# Altium schematic symbol library Relay-2.SchLib: 1 symbol
Pins are listed as number, name and electrical type; pins without a type are passive.

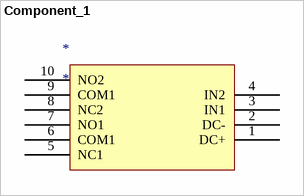
[diagram p0: symbol Component_1]

## Component_1
designator *
footprint PCBComponent_1
pins: 1 DC+, 2 DC-, 3 IN1, 4 IN2, 5 NC1, 6 COM1, 7 NO1, 8 NC2, 9 COM1, 10 NO2